# EAGLE library part CONNECTOR-22 (library HyTechDevices)
22-pin Autosport connector
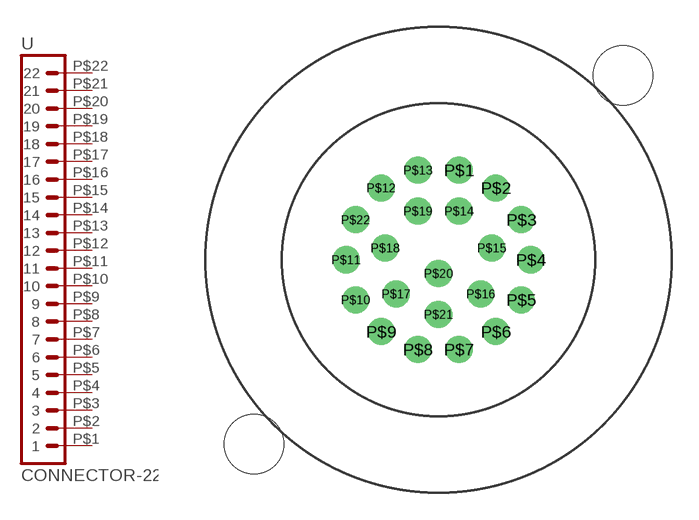
[diagram p115: symbol with the pads of AUTOSPORT_12-35; footprint AUTOSPORT_12-35]

Designator prefix -

## CONNECTOR-22 (PINS: 22)  [AUTOSPORT_12-35]
P$1  1  pas
P$2  2  pas
P$3  3  pas
P$4  4  pas
P$5  5  pas
P$6  6  pas
P$7  7  pas
P$8  8  pas
P$9  9  pas
P$10  10  pas
P$11  11  pas
P$12  12  pas
P$13  13  pas
P$14  14  pas
P$15  15  pas
P$16  16  pas
P$17  17  pas
P$18  18  pas
P$19  19  pas
P$20  20  pas
P$21  21  pas
P$22  22  pas

## Footprint AUTOSPORT_12-35 (pad centres in mm)
drill 1: P$1 1.143,5.004; P$2 3.2,4.013; P$3 4.623,2.235; P$4 5.156,0; P$5 4.623,-2.235; P$6 3.2,-4.013; P$7 1.143,-5.004; P$8 -1.143,-5.004; P$9 -3.2,-4.013; P$10 -4.623,-2.235; P$11 -5.156,0; P$12 -3.2,4.013; P$13 -1.143,5.004; P$14 1.143,2.718; P$15 2.972,0.66; P$16 2.362,-1.905; P$17 -2.362,-1.905; P$18 -2.972,0.66; P$19 -1.143,2.718; P$20 0,-0.762; P$21 0,-3.048; P$22 -4.623,2.235
hole 3.3 at -10.288,-10.288
hole 3.3 at 10.288,10.288